# Altium footprint library CapElectrolite.PcbLib: 4 footprints
Each footprint in its own frame and in the unit in brackets; x right, y up, seen from the top. Pads: shape width x height; smd on the part's side, far side on the other; paste and mask are expansions set on the pad; w line width, h text height; cw(c..) or ccw(c..) is an arc to the next point about the centre after c.
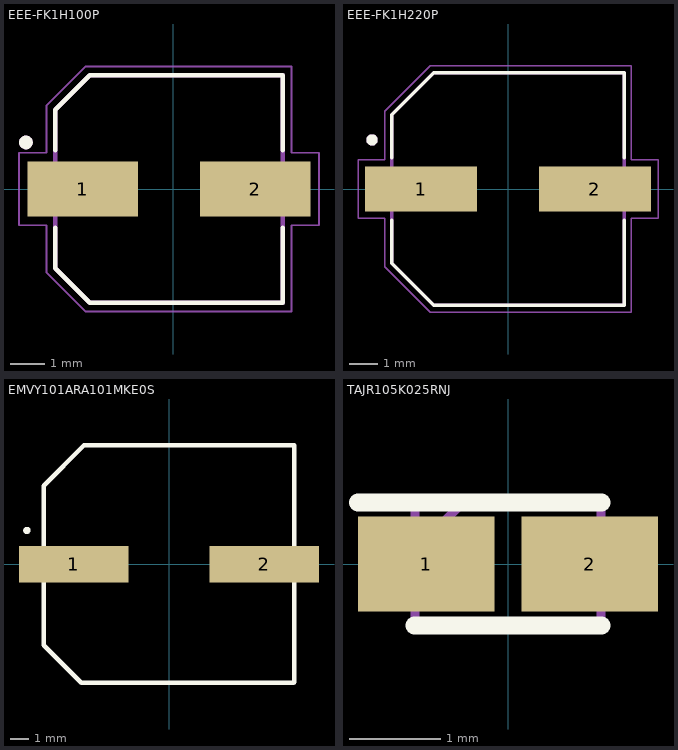
[diagram p0: the footprints below, top view; thin cyan lines are the x and y axes]

## EEE-FK1H100P [mm]
pads (2):
  rect 3.2x1.6 smd: 1(-2.627,0) 2(2.373,0)
Top Overlay:
  circle w0.2: c-4.277,1.35 r0.1
  lines w0.127: -3.427,-1.12 -3.427,-2.3 -2.427,-3.3 3.173,-3.3 3.173,-1.12 ; -3.427,1.12 -3.427,2.3 -2.427,3.3 3.173,3.3 3.173,1.12
Mechanical 13:
  circle w0.2: c-4.277,1.35 r0.1
  lines w0.127: -3.427,-2.3 -3.427,2.3 -2.427,3.3 3.173,3.3 3.173,-3.3 -2.427,-3.3 -3.427,-2.3
Mechanical 15:
  lines w0.05: -4.477,-1.05 -3.677,-1.05 -3.677,-2.425 -2.552,-3.55 3.423,-3.55 3.423,-1.05 4.223,-1.05 4.223,1.05 3.423,1.05 3.423,3.55 -2.552,3.55 -3.677,2.425 -3.677,1.05 -4.477,1.05 -4.477,-1.05
3D body "step_temp.STEP": height 5.8, standoff 0, extent -3.777,-3.3 3.523,3.3

## EEE-FK1H220P [mm]
pads (2):
  rect 4x1.6 smd: 1(-3.1,0) 2(3.1,0)
Top Overlay:
  circle w0.2: c-4.85,1.75 r0.1
  lines w0.127: -4.15,-1.12 -4.15,-2.65 -2.65,-4.15 4.15,-4.15 4.15,-1.12 ; -4.15,1.12 -4.15,2.65 -2.65,4.15 4.15,4.15 4.15,1.12
Mechanical 13:
  circle w0.2: c-4.85,1.75 r0.1
  lines w0.127: -4.15,-2.65 -2.65,-4.15 4.15,-4.15 4.15,4.15 -2.65,4.15 -4.15,2.65 -4.15,-2.65
Mechanical 15:
  lines w0.05: -5.35,-1.05 -5.35,1.05 -4.4,1.05 -4.4,2.775 -2.775,4.4 4.4,4.4 4.4,1.05 5.35,1.05 5.35,-1.05 4.4,-1.05 4.4,-4.4 -2.775,-4.4 -4.4,-2.775 -4.4,-1.05 -5.35,-1.05
3D body "step_temp.STEP": height 6.2, standoff 0, extent -4.5,-4.15 4.5,4.15

## EMVY101ARA101MKE0S [mm]
pads (2):
  rect 6x2 smd: 1(-5.207,0) 2(5.207,0)
Top Overlay:
  circle w0.2: c-7.775,1.85 r0.1
  lines w0.254: -6.85,-4.425 -6.85,4.3 -4.65,6.5 6.85,6.5 6.85,-6.45 6.825,-6.475 -4.8,-6.475 -6.85,-4.425
3D body "EMVY101ARA101MKE0S.STEP": height 13.5, standoff 0, extent -6.85,-6.5 6.85,6.5

## TAJR105K025RNJ [mm]
pads (2):
  rect 1.5x1.05 smd: 1(-0.9,0) 2(0.9,0)
Top Overlay:
  lines w0.2: -1.65,0.675 1.025,0.675 ; -1.025,-0.675 1.025,-0.675
Mechanical 15:
  lines w0.1: -1.025,0.15 -0.5,0.675 ; -1.025,-0.675 -1.025,0.675 1.025,0.675 1.025,-0.675 -1.025,-0.675
3D body "TAJR105K025RNJ.stp": height 1.2, standoff 0, extent -1.025,-0.675 1.025,0.675